# Altium schematic symbol library LTC1799IS5#TRPBF.Schlib: 1 symbol
Pins are listed as number, name and electrical type; pins without a type are passive.

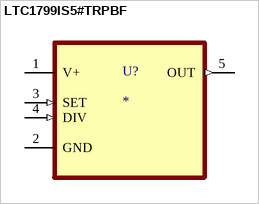
[diagram p0: symbol LTC1799IS5#TRPBF]

## LTC1799IS5#TRPBF
designator U?
Oscillator, Silicon IC 1kHz ~ 33MHz TSOT-23-5
pins: 1 V+ (power), 2 GND, 3 SET (in), 4 DIV (in), 5 OUT (out)